# Altium schematic symbol library Power Supplies.SchLib: 13 symbols
Pins are listed as number, name and electrical type; pins without a type are passive.

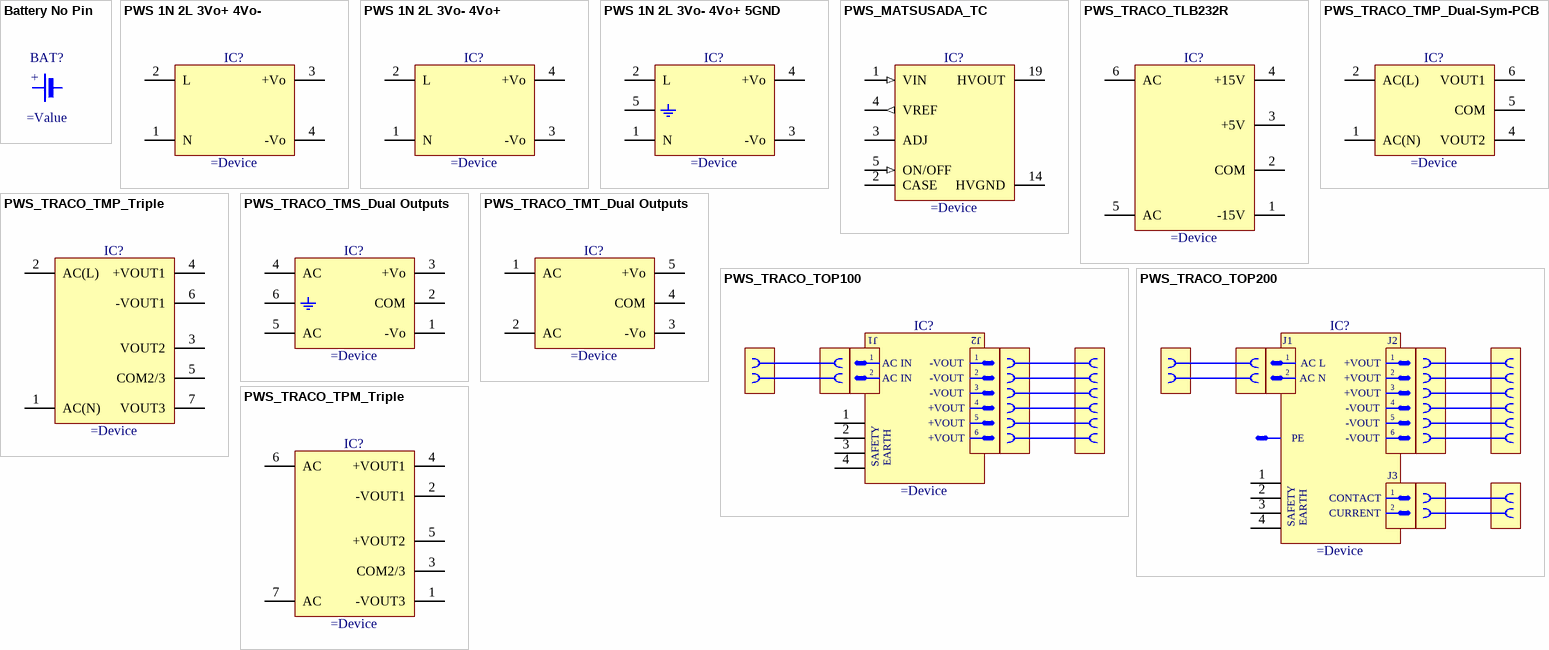
[diagram p0: symbols Battery No Pin to PWS_TRACO_TPM_Triple]

## Battery No Pin
designator BAT?
Battery Without pin for Socket
text: +

## PWS 1N 2L 3Vo+ 4Vo-
designator IC?
Power Supply
pins: 1 N (power), 2 L (power), 3 +Vo (power), 4 -Vo (power)

## PWS 1N 2L 3Vo- 4Vo+
designator IC?
Power Supply
pins: 1 N (power), 2 L (power), 3 -Vo (power), 4 +Vo (power)

## PWS 1N 2L 3Vo- 4Vo+ 5GND
designator IC?
Power Supply
pins: 1 N (power), 2 L (power), 3 -Vo (power), 4 +Vo (power), 5 EARTH (power)

## PWS_MATSUSADA_TC
designator IC?
Power Supply
pins: 1 VIN (in), 2 CASE, 3 ADJ, 4 VREF (out), 5 ON/OFF (in), 14 HVGND (power), 19 HVOUT (power)

## PWS_TRACO_TLB232R
designator IC?
Power Supply TLB Serie, Triple Output +5V, +15V -15V
pins: 1 -15V (power), 2 COM (power), 3 +5V (power), 4 +15V (power), 5 AC (power), 6 AC (power)

## PWS_TRACO_TMP_Dual-Sym-PCB
designator IC?
Power Supply tmp Serie, Symetrical Dual Output, PCB Version
pins: 1 AC(N) (power), 2 AC(L) (power), 4 VOUT2 (power), 5 COM (power), 6 VOUT1 (power)

## PWS_TRACO_TMP_Triple
designator IC?
Power Supply TMP Serie, Triple Output, PCB Version
pins: 1 AC(N) (power), 2 AC(L) (power), 3 VOUT2 (power), 4 +VOUT1 (power), 5 COM2/3 (power), 6 -VOUT1 (power), 7 VOUT3 (power)

## PWS_TRACO_TMS_Dual Outputs
designator IC?
Power Supply
pins: 1 -Vo (power), 2 COM (power), 3 +Vo (power), 4 AC (power), 5 AC (power), 6 EARTH (power)

## PWS_TRACO_TMT_Dual Outputs
designator IC?
Power Supply
pins: 1 AC (power), 2 AC (power), 3 -Vo (power), 4 COM (power), 5 +Vo (power)

## PWS_TRACO_TOP100
designator IC?
TOP 100 Serie, 100W Power Supply
pins: 1 EARTH (power), 2 EARTH (power), 3 EARTH (power), 4 EARTH (power)
text: J1; J2; AC IN; -VOUT; +VOUT; 5; 6; SAFETY

## PWS_TRACO_TOP200
designator IC?
TOP 200 Serie, 200W Power Supply
pins: 1 EARTH (power), 2 EARTH (power), 3 EARTH (power), 4 EARTH (power)
text: J1; J2; AC L; +VOUT; AC N; -VOUT; 5; 6; PE; J3; CONTACT; SAFETY; CURRENT

## PWS_TRACO_TPM_Triple
designator IC?
Power Supply TPM Serie, Triple Output, PCB Version
pins: 1 -VOUT3 (power), 2 -VOUT1 (power), 3 COM2/3 (power), 4 +VOUT1 (power), 5 +VOUT2 (power), 6 AC (power), 7 AC (power)